# Altium footprint library cui-power.PcbLib: 2 footprints
Each footprint in its own frame and in the unit in brackets; x right, y up, seen from the top. Pads: shape width x height; smd on the part's side, far side on the other; paste and mask are expansions set on the pad; w line width, h text height; cw(c..) or ccw(c..) is an arc to the next point about the centre after c.
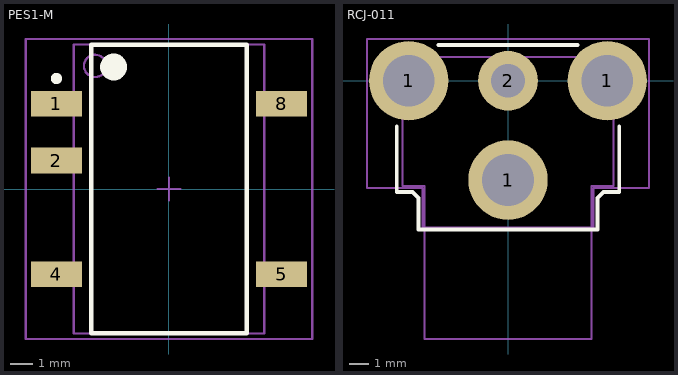
[diagram p0: the footprints below, top view; thin cyan lines are the x and y axes]

## PES1-M [mm] "SOP, 8-Leads, Body 12.9x8.5mm (max), Pitch 2.54mm, IPC Medium Density"
height 7.25
pads (5):
  rect 2.3x1.15 smd: 1(-5.025,3.81) 2(-5.025,1.27) 4(-5.025,-3.81) 5(5.025,-3.81) 8(5.025,3.81)
Top Overlay:
  circle w0.6: c-2.475,5.45 r0.3
  circle w0.25: c-5.025,4.935 r0.125
  lines w0.2: -3.475,-6.45 3.475,-6.45 3.475,6.45 -3.475,6.45 -3.475,-6.45
Mechanical 13:
  circle w0.1: c-3.3,5.5 r0.5
  lines w0.1: -0.5,0 0.5,0 ; 0,-0.5 0,0.5 ; -4.25,-6.45 4.25,-6.45 4.25,6.45 -4.25,6.45 -4.25,-6.45
Mechanical 15:
  lines w0.1: -6.4,-6.7 6.4,-6.7 6.4,6.7 -6.4,6.7 -6.4,-6.7
  text ".Designator" at -2.85,-0.125 h0.8
3D body: height 7, standoff -0.25, extent -5.622,-6.35 5.622,6.35

## RCJ-011 [mm] "RCA Connector"
height 12
pads (4):
  round 4 hole 2.6: 1(-5,0) 1(0,-5) 1(5,0)
  round 3 hole 1.7: 2(0,0)
Top Overlay:
  lines w0.2: -5.6,-2.3 -5.6,-5.6 -4.8,-5.6 -4.5,-5.9 -4.5,-7.5 4.5,-7.5 4.5,-5.9 4.8,-5.6 5.6,-5.6 5.6,-2.3 ; -3.5,1.8 3.5,1.8
Mechanical 13:
  lines w0.1: -0.5,0 0.5,0 ; 0,-0.5 0,0.5 ; -5.3,-5.3 -5.3,1.2 5.3,1.2 5.3,-5.3 4.2,-5.3 4.2,-13 -4.2,-13 -4.2,-5.3 -5.3,-5.3
Mechanical 15:
  lines w0.1: -7.1,-5.4 -7.1,2.1 7.1,2.1 7.1,-5.4 4.3,-5.4 4.3,-7.4 -4.3,-7.4 -4.3,-5.4 -7.1,-5.4
  text ".Designator" at -1.925,-2.525 h0.5
3D body: height 12.1, standoff -4.1, extent -5.8,-13.25 5.8,1.25